# EAGLE library part PIC18F14K50-I/SO (library ics)
USB Flash Microcontrollers
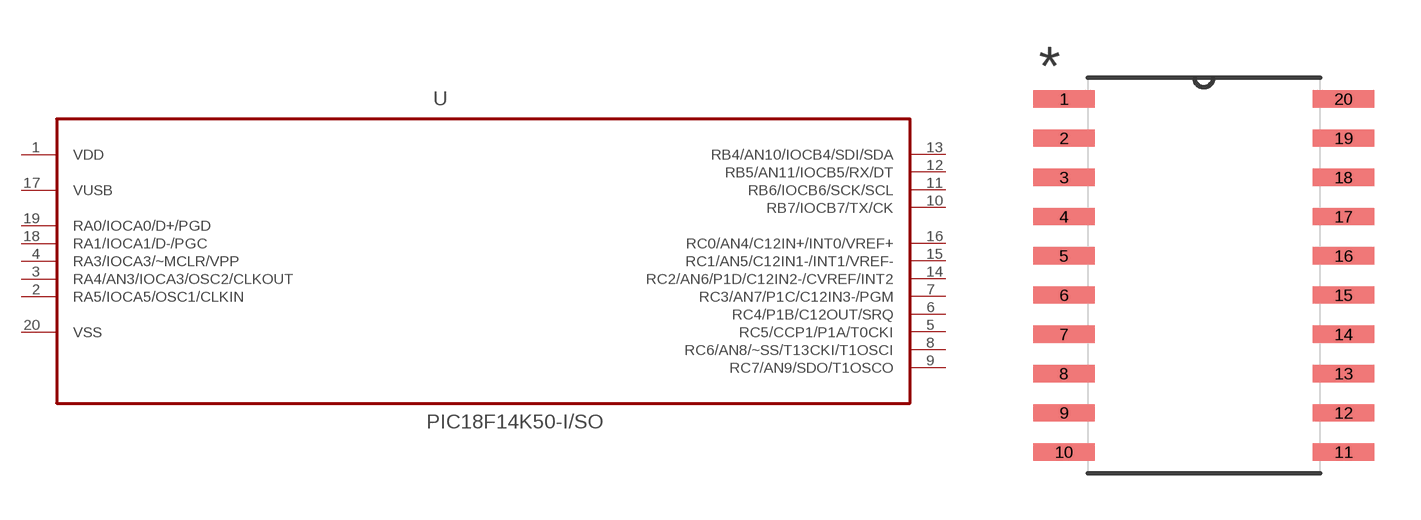
[diagram p4: symbol with the pads of SOIC127P1030X265-20N; footprint SOIC127P1030X265-20N]

Designator prefix -

## PIC18F14K50-I/SO (DESCRIPTION: Microcontrollers; MPN: PIC18F14K50-I/SO; OC_FARNELL: 1648502; OC_NEWARK: 77M3104; PACKAGE: SOIC-20; SUPPLIER: Microchip)  [SOIC127P1030X265-20N]
1  VDD  pwr
2  RA5/IOCA5/OSC1/CLKIN
3  RA4/AN3/IOCA3/OSC2/CLKOUT  in
4  RA3/IOCA3/~MCLR/VPP
5  RC5/CCP1/P1A/T0CKI
6  RC4/P1B/C12OUT/SRQ
7  RC3/AN7/P1C/C12IN3-/PGM
8  RC6/AN8/~SS/T13CKI/T1OSCI
9  RC7/AN9/SDO/T1OSCO
10  RB7/IOCB7/TX/CK
11  RB6/IOCB6/SCK/SCL
12  RB5/AN11/IOCB5/RX/DT
13  RB4/AN10/IOCB4/SDI/SDA
14  RC2/AN6/P1D/C12IN2-/CVREF/INT2
15  RC1/AN5/C12IN1-/INT1/VREF-  pwr
16  RC0/AN4/C12IN+/INT0/VREF+  pwr
17  VUSB  in
18  RA1/IOCA1/D-/PGC
19  RA0/IOCA0/D+/PGD
20  VSS  pas

## Footprint SOIC127P1030X265-20N (pad centres in mm)
smd 1.981 x 0.559: 1 -4.521,5.715; 2 -4.521,4.445; 3 -4.521,3.175; 4 -4.521,1.905; 5 -4.521,0.635; 6 -4.521,-0.635; 7 -4.521,-1.905; 8 -4.521,-3.175; 9 -4.521,-4.445; 10 -4.521,-5.715; 11 4.521,-5.715; 12 4.521,-4.445; 13 4.521,-3.175; 14 4.521,-1.905; 15 4.521,-0.635; 16 4.521,0.635; 17 4.521,1.905; 18 4.521,3.175; 19 4.521,4.445; 20 4.521,5.715